# EAGLE library part 662012231722 (library Wire-to-Board)
WR-MPC3 3.00mm Male Dual Row SMT Angled Header SMT Fitting Nail Clip, 12 Pins=>Code : Con_WTB_MPC3_2_PCB_SMT_662012231722 <http://katalog.we-online.de/media/thumbs2/eican/thb_Con_WTB_MPC3_2_PCB_SMT_6620xx231722_pf2.jpg> Details see: http://katalog.we-online.de/en/em/662_0xx_231_722 Created 2014-06-06, Karrer Zheng 2014 (C) Würth Elektronik
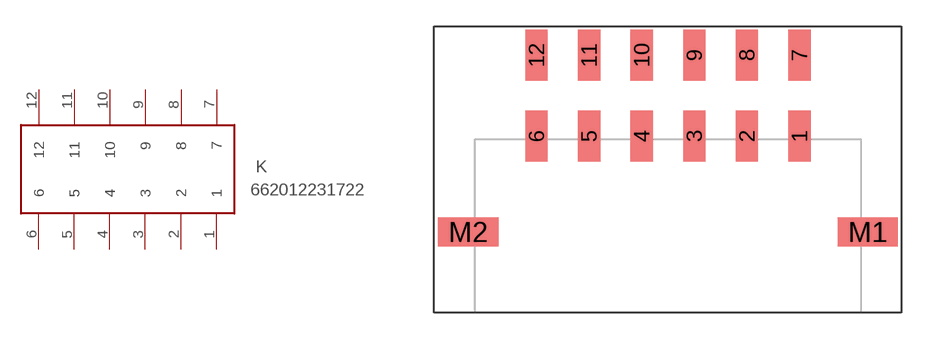
[diagram p363: symbol with the pads of 662012231722; footprint 662012231722]

Designator prefix K

## 662012231722  [662012231722]
1  1
2  2
3  3
4  4
5  5
6  6
7  7
8  8
9  9
10  10
11  11
12  12

## Footprint 662012231722 (pad centres in mm)
WR-MPC3 3.00mm Male Dual Row SMT Angled Header SMT Fitting Nail Clip, 12 Pins
smd 1.27 x 2.92: 1 0,-2.31; 2 -3,-2.31; 3 -6,-2.31; 4 -9,-2.31; 5 -12,-2.31; 6 -15,-2.31; 7 0,2.31; 8 -3,2.31; 9 -6,2.31; 10 -9,2.31; 11 -12,2.31; 12 -15,2.31
smd 3.43 x 1.65: M1 3.895,-7.79; M2 -18.895,-7.79